# Altium schematic symbol library DAC.SchLib: 1 symbol
Pins are listed as number, name and electrical type; pins without a type are passive.

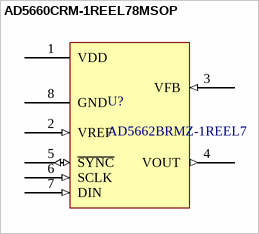
[diagram p0: symbol AD5660CRM-1REEL78MSOP]

## AD5660CRM-1REEL78MSOP
designator U?, comment AD5662BRMZ-1REEL7
IC DAC 16BIT V-OUT 8MSOP,; Manufacturer: Analog Devices; Number of Converters: 1; Power Dissipation: 5 mW; Sampling Rate: 125 kS/s; Supply Voltage - Max: 5.5 V; Supply Voltage - Min: 2.7 V; Resolution: 16 bit; Supplier 1 URL: https://www.mouser.vn/ProductDetail/Analog-Devices/AD5662BRMZ-1REEL7?qs=NmRFExCfTkGSnX5okAm7Ig%3D%3D; Supplier 2 URL: https://www.digikey.com/en/products/detail/analog-devices-inc/ad5662brmz-1reel7/1198991; Supplier 3 URL: N/A; Value: AD5662BRMZ-1REEL7; Supplier 1: Mouser; Supplier 1 Part Number: 584-AD5662BRMZ-1R7; Supplier 2: Digi-Key; Supplier 2 Part Number: AD5662BRMZ-1REEL7TR-ND; Supplier 3: thegioiic; Supplier 3 Part Number: N/A; Manufacturer Part Number: AD5662BRMZ-1REEL7; Mount: SMD/SMT; Operating Temperature Max: + 85 C; Operating Temperature Min: - 40 C; Package / Case: MSOP-8; Packaging: Tape and Reel; ComponentLink1Description: Datasheet; ComponentLink1URL: https://www.analog.com/media/en/technical-documentation/data-sheets/AD5620_5640_5660.pdf
footprint AD5662xx family (TSOP, 8-Leads, Body 3.00x3.00mm, Pitch 0.65mm, IPC Medium Density)
pins: 1 VDD (power), 2 VREF (in), 3 VFB (in), 4 VOUT (out), 5 ~{SYNC} (io), 6 SCLK (in), 7 DIN (in), 8 GND (power)